# Altium integrated library My_Library_Display.IntLib: 1 symbol
Pins are listed as number, name and electrical type; pins without a type are passive.

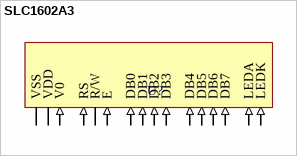
[diagram p0: symbol SLC1602A3]

## SLC1602A3
designator U?
2x16 Charecter Lcd. Top left pin placement.
footprint 2x16 Lcd Top Left 36x80mm
pins: 1 VSS (power), 2 VDD (power), 3 V0 (in), 4 RS (in), 5 R/W (io), 6 E (in), 7 DB0 (in), 8 DB1 (in), 9 DB2 (in), 10 DB3 (in), 11 DB4 (in), 12 DB5 (in), 13 DB6 (in), 14 DB7 (in), 15 LEDA (in), 16 LEDK (in)